# Altium schematic symbol library XAL1580-302MED.SchLib: 2 symbols
Pins are listed as number, name and electrical type; pins without a type are passive.

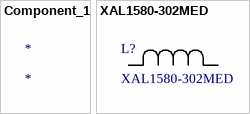
[diagram p0: symbols Component_1 to XAL1580-302MED]

## Component_1
designator *

## XAL1580-302MED
designator L?
No Description Available; Mfr_Name: Coilcraft; Type: DEV; Copyright: Copyright (C) 2024 Ultra Librarian. All rights reserved.; Manufacturer_Part_Number: XAL1580-302MED; RefDes: RefDes
footprint IND_XAL1580-302MED_COC
pins: 1, 2